# Altium footprint library PCB11.PcbLib: 25 footprints (part 2 of 2)
Each footprint in its own frame and in the unit in brackets; x right, y up, seen from the top. Pads: shape width x height; smd on the part's side, far side on the other; paste and mask are expansions set on the pad; w line width, h text height; cw(c..) or ccw(c..) is an arc to the next point about the centre after c.
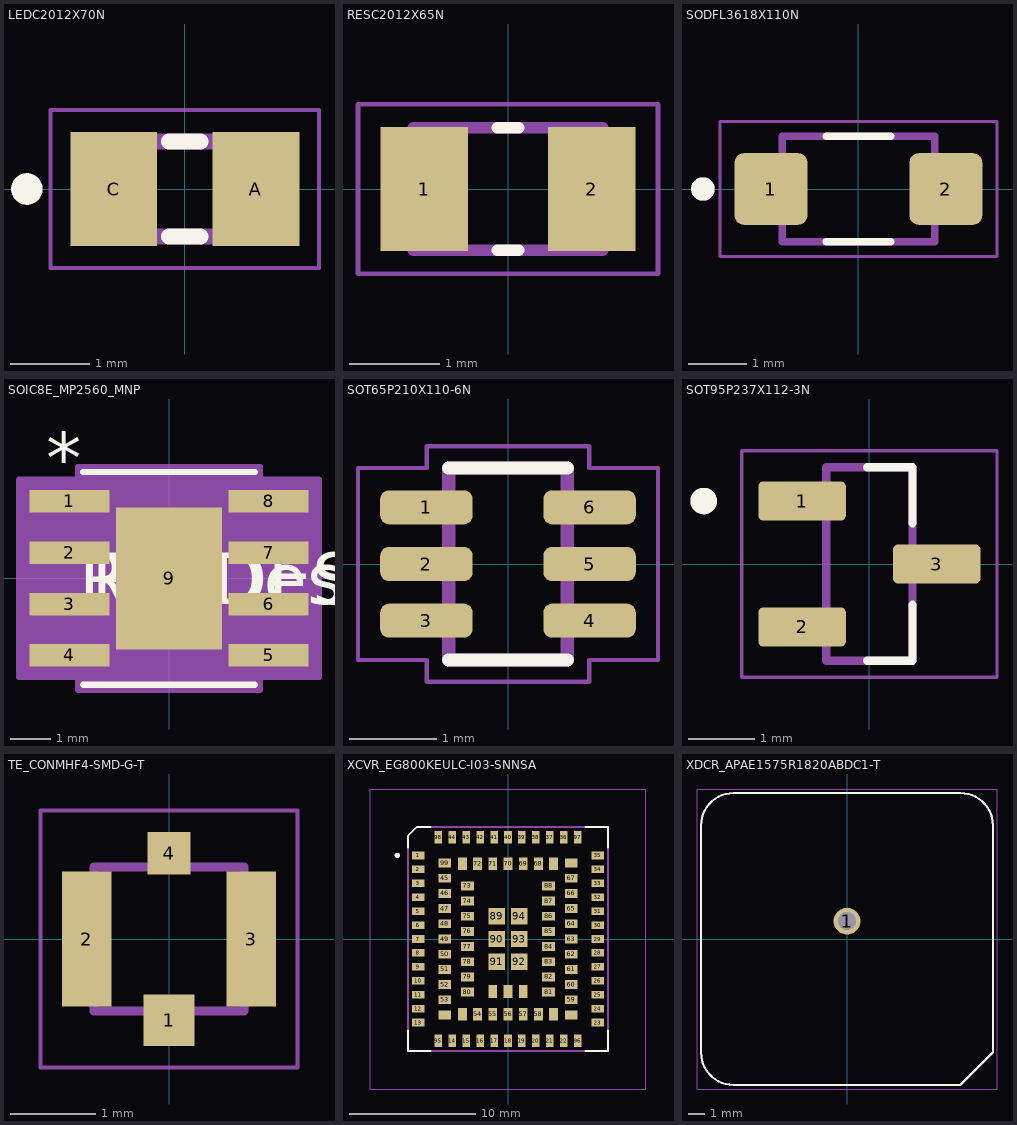
[diagram p1: the footprints below, top view; thin cyan lines are the x and y axes]

## LEDC2012X70N [mm]
pads (2):
  rect 1.1x1.45 smd: A(0.9,0) C(-0.9,0)
Top Overlay:
  circle w0.2: c-2,0 r0.1
  lines w0.2: -0.2,-0.6 0.2,-0.6 ; -0.2,0.6 0.2,0.6
Mechanical 13:
  lines w0.2: -1,-0.6 -1,0.6 1,0.6 1,-0.6 -1,-0.6
Mechanical 15:
  lines w0.05: -1.7,-1 -1.7,1 1.7,1 1.7,-1 -1.7,-1
3D body "step_temp.STEP": height 0.7, standoff 0, extent -1,-0.625 1,0.625

## RESC2012X65N [mm]
pads (2):
  rect 0.97x1.38 smd: 1(-0.93,0) 2(0.93,0)
Top Overlay:
  lines w0.127: -0.12,-0.68 0.12,-0.68 ; -0.12,0.68 0.12,0.68
Mechanical 13:
  lines w0.127: -1.05,-0.68 -1.05,0.68 1.05,0.68 1.05,-0.68 -1.05,-0.68
Mechanical 15:
  lines w0.05: -1.665,-0.94 -1.665,0.94 1.665,0.94 1.665,-0.94 -1.665,-0.94
3D body "step_temp.STEP": height 0.65, standoff 0, extent -1,-0.625 1,0.625

## SODFL3618X110N [mm]
pads (2):
  rrect25% 1.24x1.22 smd: 1(-1.49,0) 2(1.49,0)
Top Overlay:
  circle w0.2: c-2.65,0 r0.1
  lines w0.127: -0.55,-0.9 0.55,-0.9 ; -0.55,0.9 0.55,0.9
Mechanical 13:
  circle w0.2: c-2.65,0 r0.1
  lines w0.127: -1.3,-0.9 -1.3,0.9 1.3,0.9 1.3,-0.9 -1.3,-0.9
Mechanical 15:
  lines w0.05: -2.36,-1.15 -2.36,1.15 2.36,1.15 2.36,-1.15 -2.36,-1.15
3D body "step_temp.STEP": height 1.1, standoff 0, extent -1.8,-0.9 1.8,0.9

## SOIC8E_MP2560_MNP [mil]
pads (9):
  rect 78x22 smd paste+0 mask+0: 1(-97,75) 2(-97,25) 3(-97,-25) 4(-97,-75) 5(97,-75) 6(97,-25) 7(97,25) 8(97,75)
  rect 103x138 smd paste-68.5 mask+0: 9(0,0)
Top Overlay:
  lines w6: -83.5,-103.5 83.5,-103.5 ; -83.5,103.5 83.5,103.5
  text "RefDes" at -75,-25 h50
  text "*" at -119.5,92 h50
  text "REFDES" at -87.5,-25 h50
Top Paste:
  region: 47.56,-3.94 3.94,-3.94 3.94,-65.06 47.56,-65.06
  region: 47.56,65.06 3.94,65.06 3.94,3.94 47.56,3.94
  region: -3.94,-3.94 -47.56,-3.94 -47.56,-65.06 -3.94,-65.06
  region: -3.94,65.06 -47.56,65.06 -47.56,3.94 -3.94,3.94
Mechanical 13:
  lines w0: -12,98.5 ccw(c0,98.5) 12,98.5
  lines w1: -122,-85 -78.5,-85 -78.5,-65 -122,-65 -122,-85 ; -122,-35 -78.5,-35 -78.5,-15 -122,-15 -122,-35 ; -122,15 -78.5,15 -78.5,35 -122,35 -122,15 ; -122,65 -78.5,65 -78.5,85 -122,85 -122,65 ; -78.5,-98.5 -78.5,98.5 78.5,98.5 78.5,-98.5 -78.5,-98.5 ; 78.5,-85 122,-85 122,-65 78.5,-65 78.5,-85 ; 78.5,-35 122,-35 122,-15 78.5,-15 78.5,-35 ; 78.5,15 122,15 122,35 78.5,35 78.5,15 ; 78.5,65 122,65 122,85 78.5,85 78.5,65
  text "RefDes2" at -87.5,-25 h50
  text "*" at -76,45.5 h50
Mechanical 15:
  region: -88.5,-96 -146,-96 -146,96 -88.5,96 -88.5,108.5 88.5,108.5 88.5,96 146,96 146,-96 88.5,-96 88.5,-108.5 -88.5,-108.5
  lines w6: -146,-96 -88.5,-96 -88.5,-108.5 88.5,-108.5 88.5,-96 146,-96 146,96 88.5,96 88.5,108.5 -88.5,108.5 -88.5,96 -146,96 -146,-96
3D body "SOIC8E_MP2560_MNP.step": height 67.09, standoff 0, extent -122,-98.5 122.01,98.51
3D body "SOIC8E_MP2560_MNP.step": height 67.09, standoff 0, extent -122.01,-98.5 122.01,98.5

## SOT65P210X110-6N [mm]
pads (6):
  rrect50% 1.06x0.39 smd: 1(-0.935,0.65) 2(-0.935,0) 3(-0.935,-0.65) 4(0.935,-0.65) 5(0.935,0) 6(0.935,0.65)
Top Overlay:
  lines w0.152: -0.68,-1.1 0.68,-1.1 ; -0.68,1.1 0.68,1.1
Mechanical 13:
  lines w0.152: -0.68,-1.1 -0.68,1.1 0.68,1.1 0.68,-1.1 -0.68,-1.1
Mechanical 15:
  lines w0.05: -1.72,-1.1 -1.72,1.1 -0.93,1.1 -0.93,1.35 0.93,1.35 0.93,1.1 1.72,1.1 1.72,-1.1 0.93,-1.1 0.93,-1.35 -0.93,-1.35 -0.93,-1.1 -1.72,-1.1
3D body "step_temp.STEP": height 1.1, standoff 0, extent -1.05,-1 1.05,1

## SOT95P237X112-3N [mm]
pads (3):
  rrect25% 1.32x0.59 smd: 1(-1.015,0.95) 2(-1.015,-0.95) 3(1.015,0)
Top Overlay:
  circle w0.2: c-2.5,0.95 r0.1
  lines w0.127: -0.035,-1.46 0.65,-1.46 0.65,-0.615 ; -0.035,1.46 0.65,1.46 0.65,0.615
Mechanical 13:
  circle w0.2: c-2.5,0.95 r0.1
  lines w0.127: -0.65,-1.46 0.65,-1.46 0.65,1.46 -0.65,1.46 -0.65,-1.46
Mechanical 15:
  lines w0.05: -1.925,-1.71 1.925,-1.71 1.925,1.71 -1.925,1.71 -1.925,-1.71
3D body "step_temp.STEP": height 0.9, standoff 0, extent -0.8,-0.8 0.8,0.8

## TE_CONMHF4-SMD-G-T [mm]
pads (4):
  rect 0.6x0.6 smd: 1(0,-0.95)
  rect 0.58x1.58 smd: 2(-0.96,0) 3(0.96,0)
  rect 0.5x0.5 smd: 4(0,1)
Mechanical 13:
  lines w0.1: -0.88,-0.84 0.88,-0.84 0.88,0.84 -0.88,0.84 -0.88,-0.84
Mechanical 15:
  lines w0.05: -1.5,-1.5 1.5,-1.5 1.5,1.5 -1.5,1.5 -1.5,-1.5
3D body "step_temp.STEP": height 0.6, standoff 0, extent -1,-1 1,1

## XCVR_EG800KEULC-I03-SNNSA [mm]
height 2.6
pads (109):
  rect 1x0.6 smd paste-1: 1(-7.1,6.6) 2(-7.1,5.5) 3(-7.1,4.4) 4(-7.1,3.3) 5(-7.1,2.2) 6(-7.1,1.1) 7(-7.1,0) 8(-7.1,-1.1) 9(-7.1,-2.2) 10(-7.1,-3.3) 11(-7.1,-4.4) 12(-7.1,-5.5) 13(-7.1,-6.6) 23(7.1,-6.6) 24(7.1,-5.5) 25(7.1,-4.4) 26(7.1,-3.3) 27(7.1,-2.2) 28(7.1,-1.1) 29(7.1,0) 30(7.1,1.1) 31(7.1,2.2) 32(7.1,3.3) 33(7.1,4.4) 34(7.1,5.5) 35(7.1,6.6)
  rect 0.6x1 smd paste-1: 14(-4.4,-8.05) 15(-3.3,-8.05) 16(-2.2,-8.05) 17(-1.1,-8.05) 18(0,-8.05) 19(1.1,-8.05) 20(2.2,-8.05) 21(3.3,-8.05) 22(4.4,-8.05) 36(4.4,8.05) 37(3.3,8.05) 38(2.2,8.05) 39(1.1,8.05) 40(0,8.05) 41(-1.1,8.05) 42(-2.2,8.05) 43(-3.3,8.05) 44(-4.4,8.05) 95(-5.5,-8.05) 96(5.5,-8.05) 97(5.5,8.05) 98(-5.5,8.05)
  rect 1x0.7 smd paste-1: 45(-5,4.8) 46(-5,3.6) 47(-5,2.4) 48(-5,1.2) 49(-5,0) 50(-5,-1.2) 51(-5,-2.4) 52(-5,-3.6) 53(-5,-4.8) 59(5,-4.8) 60(5,-3.6) 61(5,-2.4) 62(5,-1.2) 63(5,0) 64(5,1.2) 65(5,2.4) 66(5,3.6) 67(5,4.8) 73(-3.2,4.2) 74(-3.2,3) 75(-3.2,1.8) 76(-3.2,0.6) 77(-3.2,-0.6) 78(-3.2,-1.8) 79(-3.2,-3) 80(-3.2,-4.2) 81(3.2,-4.2) 82(3.2,-3) 83(3.2,-1.8) 84(3.2,-0.6) 85(3.2,0.6) 86(3.2,1.8) 87(3.2,3) 88(3.2,4.2) 99(-5,6) 100(-5,-6) 103(5,-6) 104(5,6)
  rect 0.7x1 smd paste-1: 54(-2.4,-5.95) 55(-1.2,-5.95) 56(0,-5.95) 57(1.2,-5.95) 58(2.4,-5.95) 68(2.4,5.95) 69(1.2,5.95) 70(0,5.95) 71(-1.2,5.95) 72(-2.4,5.95) 101(-3.6,-5.95) 102(3.6,-5.95) 105(3.6,5.95) 106(-3.6,5.95) 107(-1.2,-4.15) 108(0,-4.15) 109(1.2,-4.15)
  rect 1.3x1.3 smd paste-0.116: 89(-0.9,1.8) 90(-0.9,0) 91(-0.9,-1.8) 92(0.9,-1.8) 93(0.9,0) 94(0.9,1.8)
Top Overlay:
  circle w0.2: c-8.75,6.6 r0.1
  lines w0.127: -7.9,-7.22 -7.9,-8.85 -6.12,-8.85 ; -7.9,7.22 -7.9,8.15 -7.2,8.85 -6.12,8.85 ; 6.12,-8.85 7.9,-8.85 7.9,-7.22 ; 6.12,8.85 7.9,8.85 7.9,7.22
Top Paste:
  drawing of 103 lines, arcs and shapes, not listed
Mechanical 13:
  circle w0.2: c-8.75,6.6 r0.1
  lines w0.127: -7.9,-8.85 -7.9,8.15 -7.2,8.85 7.9,8.85 7.9,-8.85 -7.9,-8.85
Mechanical 15:
  lines w0.05: -10.9,-11.85 -10.9,11.85 10.9,11.85 10.9,-11.85 -10.9,-11.85
3D body "step_temp.STEP": height 2.6, standoff 0, extent -7.9,-8.85 7.9,8.85

## XDCR_APAE1575R1820ABDC1-T [mm]
pads (1):
  round 1.65 hole 1.1: 1(0,1.1)
Top Overlay:
  lines w0.127: -9,-7 ccw(c-7,-7) -7,-9 7,-9 9,-7 9,7 ccw(c7,7) 7,9 -7,9 ccw(c-7,7) -9,7 -9,-7
Mechanical 13:
  lines w0.127: -9,-7 ccw(c-7,-7) -7,-9 7,-9 9,-7 9,7 ccw(c7,7) 7,9 -7,9 ccw(c-7,7) -9,7 -9,-7
Mechanical 15:
  lines w0.05: -9.25,-9.25 -9.25,9.25 9.25,9.25 9.25,-9.25 -9.25,-9.25
3D body "step_temp.STEP": height 3.1, standoff -2.5, extent -9,-11 9,9